# Altium footprint library IC-INTERFACE.PcbLib: 4 footprints
Each footprint in its own frame and in the unit in brackets; x right, y up, seen from the top. Pads: shape width x height; smd on the part's side, far side on the other; paste and mask are expansions set on the pad; w line width, h text height; cw(c..) or ccw(c..) is an arc to the next point about the centre after c.
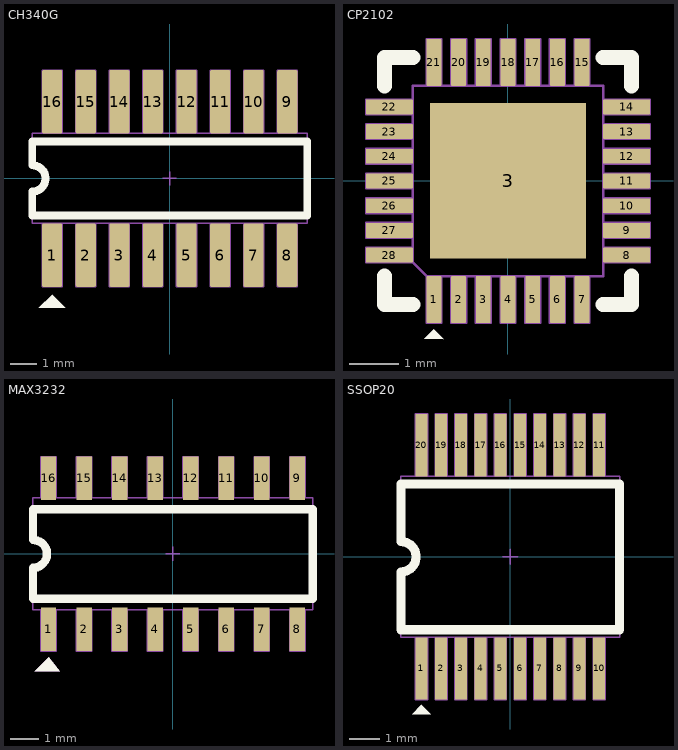
[diagram p0: the footprints below, top view; thin cyan lines are the x and y axes]

## CH340G [mm] "SOP127P1080X780X190 - 16P"
height 1.5
pads (16):
  rrect15% 0.76x2.4 smd paste+0.1 mask+0.07: 1(-4.445,-2.9) 2(-3.175,-2.9) 3(-1.905,-2.9) 4(-0.635,-2.9) 5(0.635,-2.9) 6(1.905,-2.9) 7(3.175,-2.9) 8(4.445,-2.9) 9(4.445,2.9) 10(3.175,2.9) 11(1.905,2.9) 12(0.635,2.9) 13(-0.635,2.9) 14(-1.905,2.9) 15(-3.175,2.9) 16(-4.445,2.9)
Top Overlay:
  region: -4.445,-4.4 -4.945,-4.9 -3.945,-4.9
  lines w0.3: -5.2,-1.4 5.2,-1.4 5.2,1.4 -5.2,1.4 -5.2,0.5 cw(c-5.2,0) -5.2,-0.5 -5.2,-1.4
Top HCB:
  lines w0.05: -4.825,-1.7 -4.825,-4.1 -4.065,-4.1 -4.065,-1.7 ; -3.555,-1.7 -3.555,-4.1 -2.795,-4.1 -2.795,-1.7 ; -3.555,1.7 -3.555,4.1 -2.795,4.1 -2.795,1.7 ; -2.285,-1.7 -2.285,-4.1 -1.525,-4.1 -1.525,-1.7 ; -2.285,1.7 -2.285,4.1 -1.525,4.1 -1.525,1.7 ; -1.015,-1.7 -1.015,-4.1 -0.255,-4.1 -0.255,-1.7 ; -1.015,1.7 -1.015,4.1 -0.255,4.1 -0.255,1.7 ; -0.255,0 0.255,0 ; 0,-0.25 0,0.25 ; 0.255,-1.7 0.255,-4.1 1.015,-4.1 1.015,-1.7 ; 0.255,1.7 0.255,4.1 1.015,4.1 1.015,1.7 ; 1.525,-1.7 1.525,-4.1 2.285,-4.1 2.285,-1.7 ; 1.525,1.7 1.525,4.1 2.285,4.1 2.285,1.7 ; 2.795,-1.7 2.795,-4.1 3.555,-4.1 3.555,-1.7 ; 2.795,1.7 2.795,4.1 3.555,4.1 3.555,1.7 ; 4.065,1.7 4.065,4.1 4.825,4.1 4.825,1.7 ; -4.825,4.1 -4.825,1.7 -4.825,4.1 ; -4.825,4.1 -4.065,4.1 ; -4.825,4.1 -4.065,4.1 ; -4.065,4.1 -4.065,1.7 -4.065,4.1 ; 4.065,-4.1 4.825,-4.1 ; 4.065,-4.1 4.825,-4.1 ; 4.065,-4.1 4.065,-1.7 4.065,-4.1 ; 4.825,-4.1 4.825,-1.7 4.825,-4.1 ; -5.2,-1.7 -5.2,-0.5 ccw(c-5.2,0) -5.2,0.5 -5.2,1.7 5.2,1.7 5.2,-1.7 -5.2,-1.7
  text "1" at -4.563,-1.222 h1
  text "8" at 4.234,-1.216 h1
  text "9" at 4.235,0.6 h1
  text "16" at -4.873,0.6 h1
3D body "User Library-SOP16_208mil (5_3mm).STEP": height 2, standoff 0, extent -5.1,-3.961 5.1,3.96

## CP2102 [mm] "QFN50P500X500X100 - 28P"
height 0.9
pads (29):
  rrect10% 0.3x0.95 smd mask+0.05: 1(-1.5,-2.4) 2(-1,-2.4) 3(-0.5,-2.4) 4(0,-2.4) 5(0.5,-2.4) 6(1,-2.4) 7(1.5,-2.4) 15(1.5,2.4) 16(1,2.4) 17(0.5,2.4) 18(0,2.4) 19(-0.5,2.4) 20(-1,2.4) 21(-1.5,2.4)
  rect 3.15x3.15 smd mask+0.05: 3(0,0)
  rrect10% 0.95x0.3 smd mask+0.05: 8(2.4,-1.5) 9(2.4,-1) 10(2.4,-0.5) 11(2.4,0) 12(2.4,0.5) 13(2.4,1) 14(2.4,1.5) 22(-2.4,1.5) 23(-2.4,1) 24(-2.4,0.5) 25(-2.4,0) 26(-2.4,-0.5) 27(-2.4,-1) 28(-2.4,-1.5)
Top Overlay:
  region: -1.5,-3 -1.7,-3.2 -1.301,-3.2
  lines w0.3: -2.5,-1.925 -2.5,-2.499 -1.926,-2.499 ; -2.5,1.926 -2.5,2.5 -1.926,2.5 ; 1.926,-2.499 2.5,-2.499 2.5,-1.925 ; 1.926,2.5 2.5,2.5 2.5,1.926
Top HCB:
  lines w0.05: -2.5,-2 -2.5,-2.499 -2,-2.499 ; -0.25,0 0.25,0 ; 0,-0.25 0,0.25 ; -1.925,-1.65 -1.65,-1.925 ; -1.925,-1.65 -1.925,-1.35 -2.875,-1.35 -2.875,-1.65 -1.925,-1.65 ; -1.925,-1.65 -1.925,1.926 1.925,1.926 1.925,-1.925 -1.35,-1.925 ; -1.65,-1.925 -1.65,-2.875 -1.35,-2.875 -1.35,-1.925 ; -1.65,-1.925 -1.35,-1.925 ; -1.65,-1.925 -1.35,-1.925 ; -2.875,-1.15 -1.925,-1.15 -1.925,-0.85 -2.875,-0.85 -2.875,-1.15 ; -2.875,-0.65 -1.925,-0.65 -1.925,-0.35 -2.875,-0.35 -2.875,-0.65 ; -2.875,-0.15 -1.925,-0.15 -1.925,0.15 -2.875,0.15 -2.875,-0.15 ; -2.875,0.35 -1.925,0.35 -1.925,0.65 -2.875,0.65 -2.875,0.35 ; -2.875,0.85 -1.925,0.85 -1.925,1.15 -2.875,1.15 -2.875,0.85 ; -2.875,1.35 -1.925,1.35 -1.925,1.65 -2.875,1.65 -2.875,1.35 ; -1.65,1.926 -1.65,2.876 -1.35,2.876 -1.35,1.926 -1.65,1.926 ; -1.15,-2.875 -0.85,-2.875 -0.85,-1.925 -1.15,-1.925 -1.15,-2.875 ; -1.15,1.926 -0.85,1.926 -0.85,2.876 -1.15,2.876 -1.15,1.926 ; -0.65,-2.875 -0.35,-2.875 -0.35,-1.925 -0.65,-1.925 -0.65,-2.875 ; -0.65,1.926 -0.35,1.926 -0.35,2.876 -0.65,2.876 -0.65,1.926 ; -0.15,-2.875 0.15,-2.875 0.15,-1.925 -0.15,-1.925 -0.15,-2.875 ; -0.15,1.926 0.15,1.926 0.15,2.876 -0.15,2.876 -0.15,1.926 ; 0.35,-2.875 0.35,-1.925 0.65,-1.925 0.65,-2.875 0.35,-2.875 ; 0.35,1.926 0.35,2.876 0.65,2.876 0.65,1.926 0.35,1.926 ; 0.85,-2.875 1.15,-2.875 1.15,-1.925 0.85,-1.925 0.85,-2.875 ; 0.85,1.926 1.15,1.926 1.15,2.876 0.85,2.876 0.85,1.926 ; 1.35,-2.875 1.65,-2.875 1.65,-1.925 1.35,-1.925 1.35,-2.875 ; 1.35,1.926 1.65,1.926 1.65,2.876 1.35,2.876 1.35,1.926 ; 1.925,-1.65 1.925,-1.35 2.875,-1.35 2.875,-1.65 1.925,-1.65 ; 1.925,-1.15 1.925,-0.85 2.875,-0.85 2.875,-1.15 1.925,-1.15 ; 1.925,-0.65 1.925,-0.35 2.875,-0.35 2.875,-0.65 1.925,-0.65 ; 1.925,-0.15 1.925,0.15 2.875,0.15 2.875,-0.15 1.925,-0.15 ; 1.925,0.35 1.925,0.65 2.875,0.65 2.875,0.35 1.925,0.35 ; 1.925,0.85 1.925,1.15 2.875,1.15 2.875,0.85 1.925,0.85 ; 1.925,1.35 1.925,1.65 2.875,1.65 2.875,1.35 1.925,1.35
  text "28" at -1.342,-1.233 h0.5
  text "1" at -1.059,-1.661 h0.5
  text "7" at 0.896,-1.658 h0.5
  text "8" at 1.658,-1.105 h0.5
  text "14" at 1.661,0.787 h0.5
  text "15" at 0.785,1.342 h0.5
  text "22" at -1.339,0.769 h0.5
  text "21" at -1.202,1.339 h0.5
3D body "QFN-28 (5x5x0.9).step": height 0.92, standoff 0, extent -2.491,-2.5 2.509,2.5

## MAX3232 [mm]
height 1.2
pads (16):
  rect 0.55x1.55 smd mask+0.07: 1(-4.445,-2.7) 2(-3.175,-2.7) 3(-1.905,-2.7) 4(-0.635,-2.7) 5(0.635,-2.7) 6(1.905,-2.7) 7(3.175,-2.7) 8(4.445,-2.7) 9(4.445,2.7) 10(3.175,2.7) 11(1.905,2.7) 12(0.635,2.7) 13(-0.635,2.7) 14(-1.905,2.7) 15(-3.175,2.7) 16(-4.445,2.7)
Top Overlay:
  region: -4.445,-3.7 -4.945,-4.2 -4.045,-4.2
  lines w0.3: -5,-1.6 5,-1.6 5,1.6 -5,1.6 -5,0.5 cw(c-5,0) -5,-0.5 -5,-1.6
Top HCB:
  region: -4.445,-3.7 -4.945,-4.2 -4.045,-4.2
  lines w0.05: -4.72,-2 -4.72,-3.475 -4.17,-3.475 -4.17,-2 ; -4.72,2 -4.72,3.475 -4.17,3.475 -4.17,2 ; -3.45,-2 -3.45,-3.475 -2.9,-3.475 -2.9,-2 ; -3.45,2 -3.45,3.475 -2.9,3.475 -2.9,2 ; -2.18,-2 -2.18,-3.475 -1.63,-3.475 -1.63,-2 ; -2.18,2 -2.18,3.475 -1.63,3.475 -1.63,2 ; -0.91,-2 -0.91,-3.475 -0.36,-3.475 -0.36,-2 ; -0.91,2 -0.91,3.475 -0.36,3.475 -0.36,2 ; -0.25,0 0.25,0 ; 0,-0.25 0,0.25 ; 0.36,-2 0.36,-3.475 0.91,-3.475 0.91,-2 ; 0.36,2 0.36,3.475 0.91,3.475 0.91,2 ; 1.63,-2 1.63,-3.475 2.18,-3.475 2.18,-2 ; 1.63,2 1.63,3.475 2.18,3.475 2.18,2 ; 2.9,-2 2.9,-3.475 3.45,-3.475 3.45,-2 ; 2.9,2 2.9,3.475 3.45,3.475 3.45,2 ; 4.17,-2 4.17,-3.475 4.72,-3.475 4.72,-2 ; 4.17,2 4.17,3.475 4.72,3.475 4.72,2 ; -5,-2 -5,-0.5 ccw(c-5,0) -5,0.5 -5,2 5,2 5,-2 -5,-2
  text "1" at -4.586,-1.585 h1.2
  text "8" at 4.247,-1.579 h1.2
  text "9" at 4.248,0.871 h1.2
  text "16" at -4.958,0.871 h1.2
3D body "User Library-so16.STEP": height 1.7, standoff 0, extent -5.1,-3 5.1,3

## SSOP20 [mm] "IC 20SSOP"
height 2
pads (20):
  rect 0.4x2.05 smd mask+0.05: 1(-2.925,-3.675) 2(-2.275,-3.675) 3(-1.625,-3.675) 4(-0.975,-3.675) 5(-0.325,-3.675) 6(0.325,-3.675) 7(0.975,-3.675) 8(1.625,-3.675) 9(2.275,-3.675) 10(2.925,-3.675) 11(2.925,3.675) 12(2.275,3.675) 13(1.625,3.675) 14(0.975,3.675) 15(0.325,3.675) 16(-0.325,3.675) 17(-0.975,3.675) 18(-1.625,3.675) 19(-2.275,3.675) 20(-2.925,3.675)
Top Overlay:
  region: -2.925,-4.875 -3.225,-5.175 -2.625,-5.175
  lines w0.3: -3.6,-2.4 -3.6,-0.5 ccw(c-3.6,0) -3.6,0.5 -3.6,2.4 3.6,2.4 3.6,-2.4 -3.6,-2.4
Top HCB:
  lines w0.05: -3.125,-2.65 -3.125,-4.7 -2.725,-4.7 -2.725,-2.65 ; -3.125,2.65 -3.125,4.7 -2.725,4.7 -2.725,2.65 ; -2.475,-2.65 -2.475,-4.7 -2.075,-4.7 -2.075,-2.65 ; -2.475,2.65 -2.475,4.7 -2.075,4.7 -2.075,2.65 ; -1.825,-2.65 -1.825,-4.7 -1.425,-4.7 -1.425,-2.65 ; -1.825,2.65 -1.825,4.7 -1.425,4.7 -1.425,2.65 ; -1.175,-2.65 -1.175,-4.7 -0.775,-4.7 -0.775,-2.65 ; -1.175,2.65 -1.175,4.7 -0.775,4.7 -0.775,2.65 ; -0.525,-2.65 -0.525,-4.7 -0.125,-4.7 -0.125,-2.65 ; -0.525,2.65 -0.525,4.7 -0.125,4.7 -0.125,2.65 ; -0.25,0 0.25,0 ; 0,-0.25 0,0.25 ; 0.125,-2.65 0.125,-4.7 0.525,-4.7 0.525,-2.65 ; 0.125,2.65 0.125,4.7 0.525,4.7 0.525,2.65 ; 0.775,-2.65 0.775,-4.7 1.175,-4.7 1.175,-2.65 ; 0.775,2.65 0.775,4.7 1.175,4.7 1.175,2.65 ; 1.425,-2.65 1.425,-4.7 1.825,-4.7 1.825,-2.65 ; 1.425,2.65 1.425,4.7 1.825,4.7 1.825,2.65 ; 2.075,-2.65 2.075,-4.7 2.475,-4.7 2.475,-2.65 ; 2.075,2.65 2.075,4.7 2.475,4.7 2.475,2.65 ; 2.725,-2.65 2.725,-4.7 3.125,-4.7 3.125,-2.65 ; 2.725,2.65 2.725,4.7 3.125,4.7 3.125,2.65 ; -3.6,-2.65 -3.6,-0.5 ccw(c-3.6,0) -3.6,0.5 -3.6,2.65 3.6,2.65 3.6,-2.65 -3.6,-2.65
  text "10" at 2.498,-2.416 h1
  text "11" at 2.558,1.578 h1
  text "20" at -3.389,1.584 h1
  text "1" at -3.043,-2.422 h1
3D body "SSOP-20-5_3.step": height 1.1, standoff -0.1, extent -3.56,-3.9 3.64,3.9